# EAGLE library part RV16A01F-41 (library pot)
POTENTIOMETER - Alpha 16mm Dual
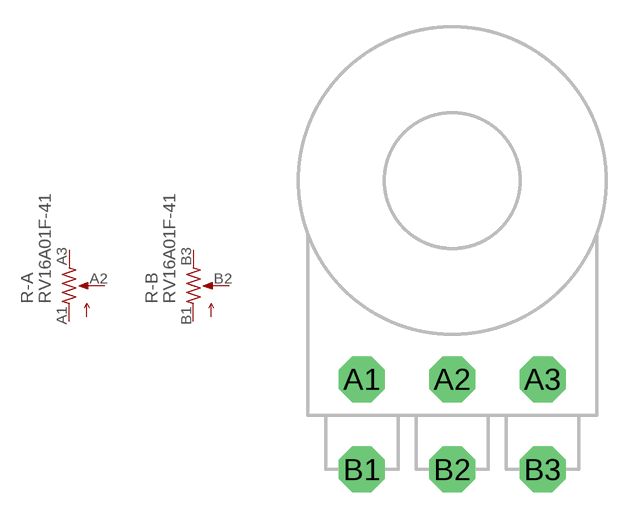
[diagram p9: symbol with the pads of RV16A01F-41; footprint RV16A01F-41]

Designator prefix R; gates -A=POT_US- -B=POT_US-

## RV16A01F-41  [RV16A01F-41]
A1  -A:1  pas
A2  -A:2  pas
A3  -A:3  pas
B1  -B:1  pas
B2  -B:2  pas
B3  -B:3  pas

## Footprint RV16A01F-41 (pad centres in mm)
POTENTIOMETER - Alpha 16mm Dual
drill 1.2 pad 2.54 octagon: A1 -5,-11; A2 0,-11; A3 5,-11; B1 -5,-16; B2 0,-16; B3 5,-16